# EAGLE library part 2516-SMD-AIR (library chuni)
WR-BHD 2.54mm Male SMT Box Header High Temperature, 16 Pins=>Code : Con_WTB_BHD_2.54_Male_SMT_612X1620621(X=0;X=3) <http://katalog.we-online.de/media/thumbs2/eican/thb_Con_WTB_BHD_2.54_Male_SMT_6120xx20621_pf2.jpg> 6123XX20621: http://katalog.we-online.de/en/em/BHD_2_54_SMT_MALE_BOX_HEADER_REEL_6123XX20621 6120XX20621: http://katalog.we-online.de/en/em/612_0xx_206_21 Created 2014-06-05, Karrer Zheng 2014 (C) Würth Elektronik
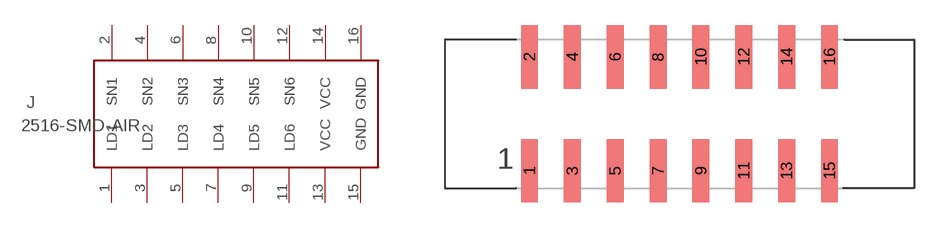
[diagram p4: symbol with the pads of 612X1620621; footprint 612X1620621]

Designator prefix J

## 2516-SMD-AIR  [612X1620621]
1  LD1  pas
2  SN1  pas
3  LD2  pas
4  SN2  pas
5  LD3  pas
6  SN3  pas
7  LD4  pas
8  SN4  pas
9  LD5  pas
10  SN5  pas
11  LD6  pas
12  SN6  pas
13  VCC  pas
14  VCC  pas
15  GND  pas
16  GND  pas

## Footprint 612X1620621 (pad centres in mm)
WR-BHD 2.54mm Male SMT Box Header High Temperature, 16 pins
smd 1 x 3.75: 1 -8.89,-3.375; 2 -8.89,3.375; 3 -6.35,-3.375; 4 -6.35,3.375; 5 -3.81,-3.375; 6 -3.81,3.375; 7 -1.27,-3.375; 8 -1.27,3.375; 9 1.27,-3.375; 10 1.27,3.375; 11 3.81,-3.375; 12 3.81,3.375; 13 6.35,-3.375; 14 6.35,3.375; 15 8.89,-3.375; 16 8.89,3.375